# Altium footprint library Control_Board_Library.PcbLib: 59 footprints (part 4 of 4)
Each footprint in its own frame and in the unit in brackets; x right, y up, seen from the top. Pads: shape width x height; smd on the part's side, far side on the other; paste and mask are expansions set on the pad; w line width, h text height; cw(c..) or ccw(c..) is an arc to the next point about the centre after c.
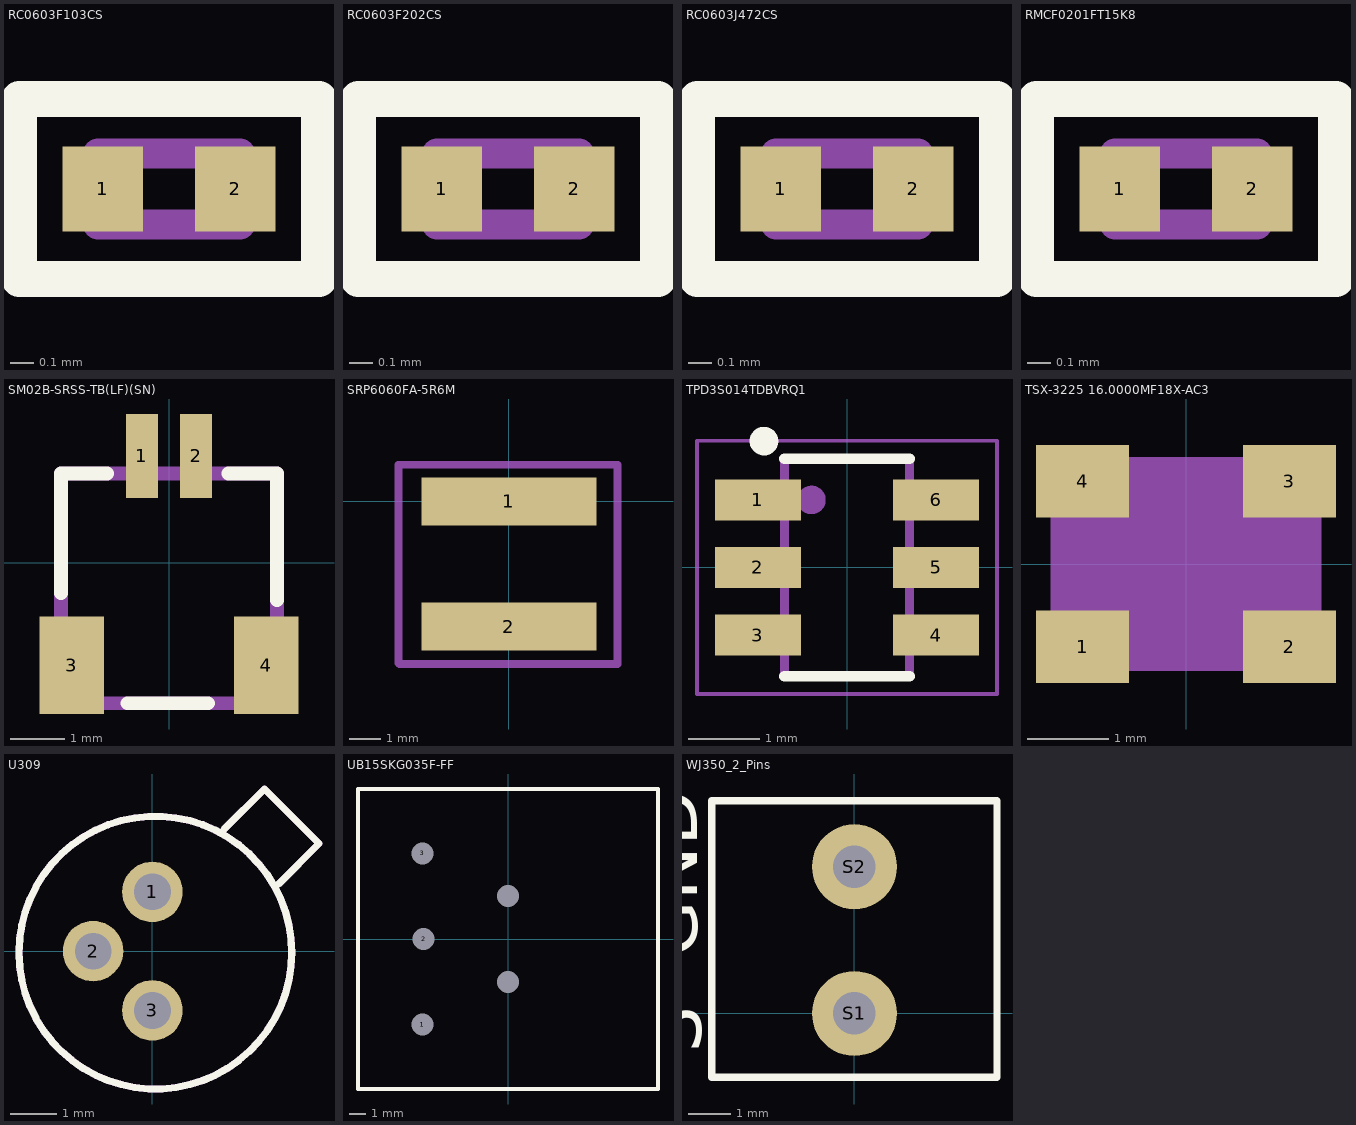
[diagram p3: the footprints below, top view; thin cyan lines are the x and y axes]

## RC0603F103CS [mm]
pads (2):
  rect 0.34x0.36 smd: 1(7.975,14.351) 2(8.535,14.351)
Top Overlay:
  lines w0.152: 7.62,13.97 8.89,13.97 8.89,14.732 7.62,14.732 7.62,13.97
Mechanical 1:
  region: 8.456,14.451 8.555,14.451 8.555,14.251 8.456,14.251
  region: 7.954,14.451 8.055,14.451 8.055,14.251 7.954,14.251
  lines w0.127: 7.955,14.201 7.955,14.501 8.555,14.501 8.555,14.201 7.955,14.201
3D body "Resistor_0201.STEP": height 0.34, standoff 0, extent 7.915,14.186 8.595,14.516

## RC0603F202CS [mm]
pads (2):
  rect 0.34x0.36 smd: 1(7.975,14.351) 2(8.535,14.351)
Top Overlay:
  lines w0.152: 7.62,13.97 8.89,13.97 8.89,14.732 7.62,14.732 7.62,13.97
Mechanical 1:
  region: 7.954,14.451 8.055,14.451 8.055,14.251 7.954,14.251
  region: 8.456,14.451 8.555,14.451 8.555,14.251 8.456,14.251
  lines w0.127: 7.955,14.201 8.555,14.201 8.555,14.501 7.955,14.501 7.955,14.201
3D body "Resistor_0201.STEP": height 0.34, standoff 0, extent 7.915,14.186 8.595,14.516

## RC0603J472CS [mm]
pads (2):
  rect 0.34x0.36 smd: 1(7.975,14.351) 2(8.535,14.351)
Top Overlay:
  lines w0.152: 7.62,13.97 7.62,14.732 8.89,14.732 8.89,13.97 7.62,13.97
Mechanical 1:
  region: 8.456,14.451 8.555,14.451 8.555,14.251 8.456,14.251
  region: 7.954,14.451 8.055,14.451 8.055,14.251 7.954,14.251
  lines w0.127: 7.955,14.201 7.955,14.501 8.555,14.501 8.555,14.201 7.955,14.201
3D body "Resistor_0201.STEP": height 0.34, standoff 0, extent 7.915,14.186 8.595,14.516

## RMCF0201FT15K8 [mm]
pads (2):
  rect 0.34x0.36 smd: 1(7.975,14.351) 2(8.535,14.351)
Top Overlay:
  lines w0.152: 7.62,13.97 8.89,13.97 8.89,14.732 7.62,14.732 7.62,13.97
Mechanical 1:
  region: 7.954,14.451 8.055,14.451 8.055,14.251 7.954,14.251
  region: 8.456,14.451 8.555,14.451 8.555,14.251 8.456,14.251
  lines w0.127: 7.955,14.201 8.555,14.201 8.555,14.501 7.955,14.501 7.955,14.201
3D body "Resistor_0201.STEP": height 0.34, standoff 0, extent 7.915,14.186 8.595,14.516

## SM02B-SRSS-TB(LF)(SN) [mm]
pads (4):
  rect 0.6x1.55 smd: 1(-0.5,1.975) 2(0.5,1.975)
  rect 1.2x1.8 smd: 3(-1.8,-1.9) 4(1.8,-1.9)
Top Overlay:
  lines w0.254: -2,-0.563 -2,1.65 -1.145,1.65 ; -0.767,-2.6 0.722,-2.6 ; 1.1,1.65 2,1.65 2,-0.697
Mechanical 1:
  lines w0.254: -2,-2.6 -2,1.65 2,1.65 2,-2.6 -2,-2.6
3D body "SM02B-SRSS-TB.STEP": height 3, standoff 0.04, extent -1.949,-2.625 2.051,2.325

## SRP6060FA-5R6M [mm]
pads (2):
  rect 5.6x1.55 smd: 1(0,0) 2(0,-4)
Mechanical 4:
  lines w0.254: -3.525,-5.175 -3.525,1.175 3.475,1.175 3.475,-5.2 -3.5,-5.2 -3.525,-5.175
3D body "SRP6060FA-5R6M.STEP": height 5.8, standoff 0, extent -3.325,-5.175 3.275,1.225

## TPD3S014TDBVRQ1 [mm]
pads (6):
  rect 1.21x0.58 smd: 1(-1.255,0.95) 2(-1.255,0) 3(-1.255,-0.95) 4(1.255,-0.95) 5(1.255,0) 6(1.255,0.95)
Top Overlay:
  circle w0.203: c-1.168,1.778 r0.1
  lines w0.152: -0.88,-1.53 0.88,-1.53 ; -0.88,1.53 0.88,1.53
Mechanical 1:
  circle w0.2: c-0.5,0.95 r0.1
  lines w0.127: -0.88,-1.53 0.88,-1.53 0.88,1.53 -0.88,1.53 -0.88,-1.53
Mechanical 4:
  lines w0.05: -2.11,-1.78 2.11,-1.78 2.11,1.78 -2.11,1.78 -2.11,-1.78
3D body "SOT-23-6.STEP": height 1.45, standoff 0, extent -1.374,-1.45 1.426,1.45

## TSX-3225 16.0000MF18X-AC3 [mil]
pads (4):
  rect 45x35 smd: 1(-50,-40) 2(50,-40) 3(50,40) 4(-50,40)
Mechanical 1:
  lines w5: -62.99,-49.21 62.99,-49.21 62.99,49.21 -62.99,49.21 -62.99,-49.21
Mechanical 4:
  region: -63.07,50 63,50 63,-50.06 -63.07,-50.06
3D body "RSX-3225 Crystal.STEP": height 23.62, standoff 0, extent -62.99,-49.21 62.99,49.21

## U309 [mil]
pads (3):
  round 51 hole 31: 1(0,50) 2(-50,0) 3(0,-50)
Top Overlay:
  lines w6: 60.48,102.74 94.48,136.74 140.48,90.74 106.48,56.74 ; -112.52,-1.26 cw(c2.48,-1.26) 117.48,-1.26 cw(c2.48,-1.26) -112.52,-1.26
Mechanical 1:
  lines w6: 60.48,102.74 94.48,136.74 140.48,90.74 106.48,56.74 ; -112.52,-1.26 cw(c2.48,-1.26) 117.48,-1.26 cw(c2.48,-1.26) -112.52,-1.26
3D body "TO-52-3.STEP": height 220, standoff -58.74, extent -161.57,-162.57 190.23,189.22

## UB15SKG035F-FF [mm]
pads (5):
  round 0.5 hole 1.3: 1(-5.08,-5.08) 2(-5,0) 3(-5.08,5.08) L+(0,2.54) L-(0,-2.54)
Top Overlay:
  lines w0.254: -8.89,-8.89 -8.89,4.73 -8.89,8.89 8.89,8.89 8.89,-8.89 -8.89,-8.89
3D body "UB15SKG035F-FF.stp": height 12.5, standoff -3.99, extent -7.62,-7.62 7.62,7.62

## WJ350_2_Pins [mil]
pads (2):
  round 80 hole 40: S1(0,0) S2(0,138)
Top Overlay:
  lines w7: -134,-60 134,-60 134,200 -134,200 -134,-60
  text "S" at -144,-37 h50
  text "GND" at -148,53 h50